# Altium footprint library 2012 finger BoardV1.3.PcbLib: 9 footprints
Each footprint in its own frame and in the unit in brackets; x right, y up, seen from the top. Pads: shape width x height; smd on the part's side, far side on the other; paste and mask are expansions set on the pad; w line width, h text height; cw(c..) or ccw(c..) is an arc to the next point about the centre after c.
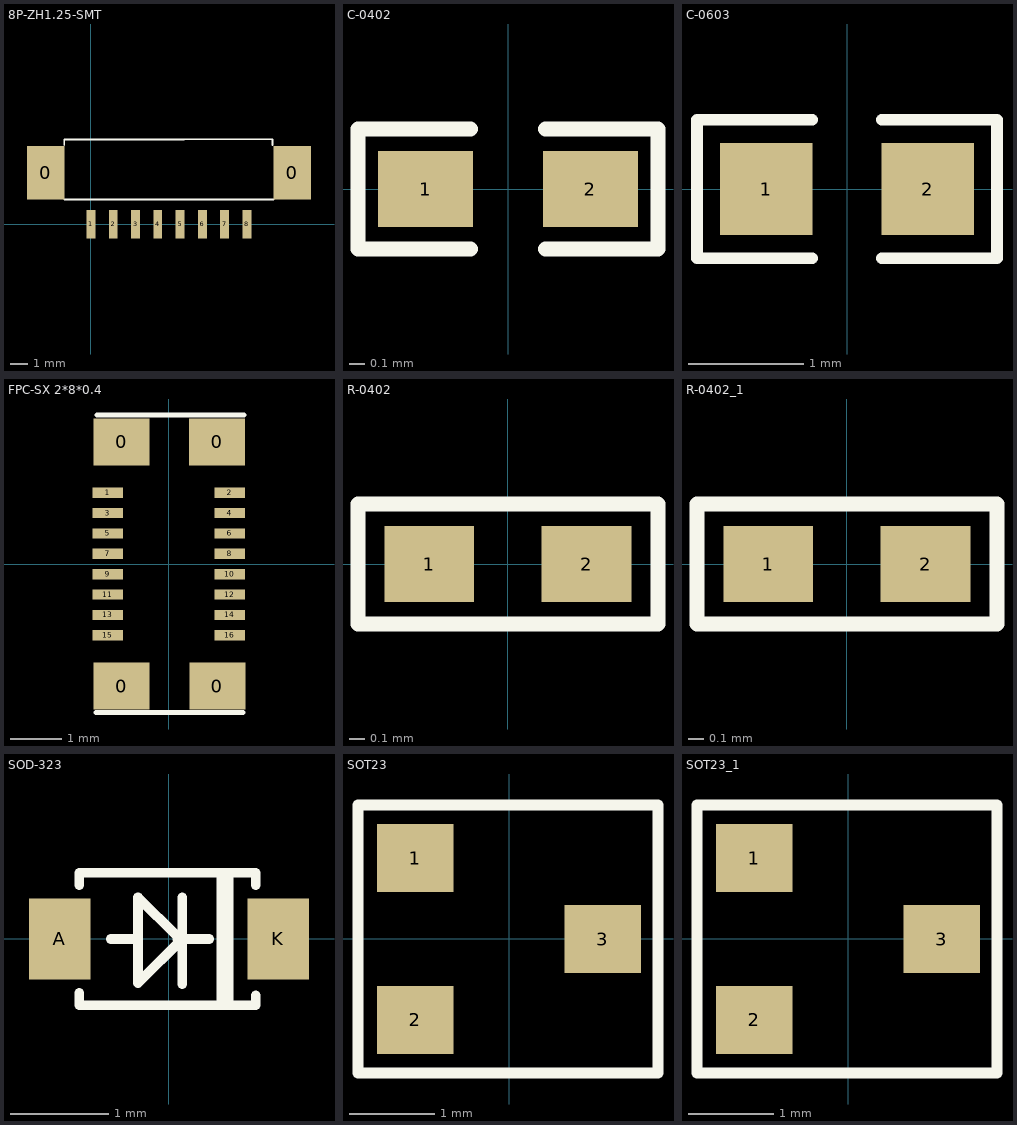
[diagram p0: the footprints below, top view; thin cyan lines are the x and y axes]

## 8P-ZH1.25-SMT [mm]
height 2.7
pads (10):
  rect 2.1x3 smd: 0(-2.54,2.896) 0(11.299,2.896)
  rect 0.5x1.6 smd: 1(0,0) 2(1.25,0) 3(2.5,0) 4(3.75,0) 5(5,0) 6(6.25,0) 7(7.5,0) 8(8.75,0)
Top Overlay:
  lines w0.1: -1.5,1.4 0,1.4 5.25,1.4 10.25,1.4 ; -1.5,4.445 -1.5,4.774 5.232,4.774 10.185,4.775 ; 10.184,4.445 10.184,4.774
3D body: height 3.7, standoff 0, extent -1.499,1.397 10.211,4.775
3D body: height 3.7, standoff 0, extent -1.499,4.75 10.185,4.775
3D body: height 0.3, standoff 0, extent -0.381,-0.889 0.381,0.889
3D body: height 0.3, standoff 0, extent 0.889,-0.889 1.651,0.889
3D body: height 0.3, standoff 0, extent 2.159,-0.889 2.921,0.889
3D body: height 0.3, standoff 0, extent 3.302,-0.889 4.064,0.889
3D body: height 0.3, standoff 0, extent 4.572,-0.889 5.334,0.889
3D body: height 0.3, standoff 0, extent 5.842,-0.889 6.604,0.889
3D body: height 0.3, standoff 0, extent 7.112,-0.889 7.874,0.889
3D body: height 0.3, standoff 0, extent 8.382,-0.889 9.144,0.889

## C-0402 [mm]
pads (2):
  rect 0.635x0.508 smd: 1(-0.55,0) 2(0.55,0)
Top Overlay:
  lines w0.1: -0.25,-0.4 -1,-0.4 -1,0.4 -0.25,0.4 ; 0.25,-0.4 1,-0.4 1,0.4 0.25,0.4
3D body "C-0402(L1.0xW0.5xH0.5).STEP": height 0.49, standoff 0.01, extent -0.501,-0.25 0.486,0.237

## C-0603 [mm]
pads (2):
  rect 0.8x0.8 smd: 1(-0.7,0) 2(0.7,0)
Top Overlay:
  lines w0.1: -0.3,-0.6 -1.3,-0.6 -1.3,0.6 -0.3,0.6 ; 0.3,-0.6 1.3,-0.6 1.3,0.6 0.3,0.6
3D body "C-0603(1.6x0.8x0.8).STEP": height 0.8, standoff 0, extent -0.8,-0.4 0.8,0.4

## FPC-SX 2*8*0.4 [mm]
pads (20):
  rect 1.1x0.92 smd: 0(-0.93,-2.4) 0(-0.93,2.4) 0(0.95,2.4) 0(0.957,-2.4)
  rect 0.6x0.2 smd: 1(-1.2,1.4) 2(1.2,1.4) 3(-1.2,1) 4(1.2,1) 5(-1.2,0.6) 6(1.2,0.6) 7(-1.2,0.2) 8(1.2,0.2) 9(-1.2,-0.2) 10(1.2,-0.2) 11(-1.2,-0.6) 12(1.2,-0.6) 13(-1.2,-1) 14(1.2,-1) 15(-1.2,-1.4) 16(1.2,-1.4)
Top Overlay:
  lines w0.1: -1.434,-2.917 1.456,-2.917 ; -1.414,2.933 1.476,2.933
3D body: height 0.85, standoff 0, extent -1.259,-2.54 1.268,2.56

## R-0402 [mm]
pads (2):
  rect 0.6x0.508 smd: 1(-0.525,0) 2(0.525,0)
Top Overlay:
  lines w0.1: 0.25,-0.4 1,-0.4 1,0.4 -0.25,0.4 -1,0.4 -1,-0.4 0.275,-0.4
3D body "R-0402(1.0x0.5x0.3).STEP": height 0.3, standoff 0, extent -0.5,-0.25 0.5,0.25

## R-0402_1 [mm]
pads (2):
  rect 0.6x0.508 smd: 1(-0.525,0) 2(0.525,0)
Top Overlay:
  lines w0.1: 0.25,-0.4 1,-0.4 1,0.4 -0.25,0.4 -1,0.4 -1,-0.4 0.275,-0.4
3D body "R-0402(1.0x0.5x0.3).STEP": height 0.3, standoff 0, extent -0.5,-0.25 0.5,0.25

## SOD-323 [mm]
pads (2):
  rect 0.63x0.83 smd: A(-1.115,0) K(1.115,0)
Top Overlay:
  rectangle: 0.485,-0.675 0.66,0.675
  lines w0.1: -0.915,-0.55 -0.915,-0.675 0.885,-0.675 0.885,-0.575 ; -0.915,0.55 -0.915,0.675 0.885,0.675 0.885,0.55 ; -0.594,0 -0.34,0 ; 0.085,0 0.41,0 ; 0.085,0.025 -0.315,0.425 -0.315,-0.45 0.143,0.008 ; 0.135,-0.458 0.135,0.05 ; 0.135,-0.083 0.135,0.425
3D body "SOD-323.STEP": height 1, standoff 0, extent -1.29,-0.65 1.31,0.65

## SOT23 [mm]
height 2.7
pads (3):
  rect 0.9x0.8 smd: 1(-1.1,0.95) 2(-1.1,-0.95) 3(1.1,0)
Top Overlay:
  lines w0.127: -1.775,-1.575 1.75,-1.575 1.75,1.575 -1.775,1.575 -1.775,-1.575
3D body "SOT-23-3.STEP": height 1.2, standoff 0, extent -1.4,-1.45 1.4,1.45

## SOT23_1 [mm]
height 2.7
pads (3):
  rect 0.9x0.8 smd: 1(-1.1,0.95) 2(-1.1,-0.95) 3(1.1,0)
Top Overlay:
  lines w0.127: -1.775,-1.575 1.75,-1.575 1.75,1.575 -1.775,1.575 -1.775,-1.575
3D body "SOT-23-3.STEP": height 1.2, standoff 0, extent -1.4,-1.45 1.4,1.45